# EAGLE library part PS8802 (library ENERGY METR_MY_WASH_HOST_V0.1)
MOTOROLA OPTO COUPLER
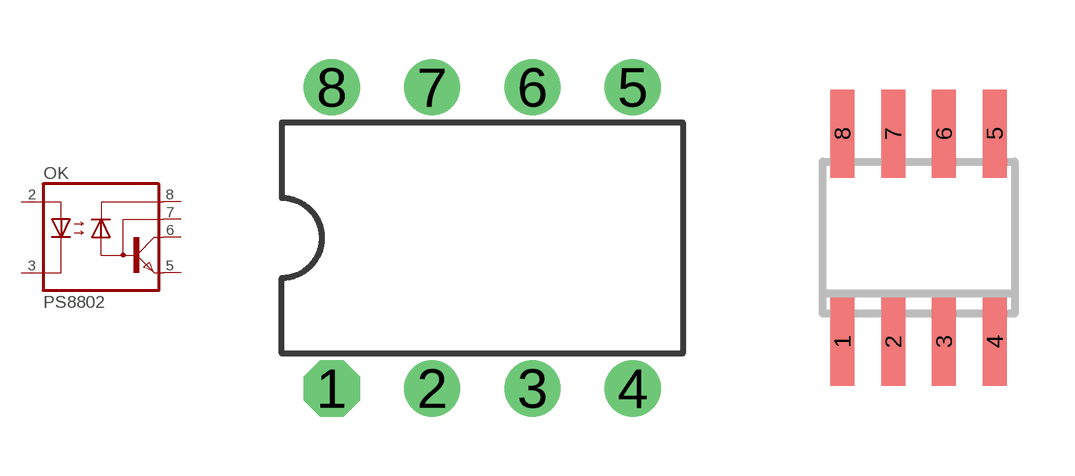
[diagram p1: symbol with the pads of DIL08; footprints DIL08, SO08]

Designator prefix OK

## PS8802  [DIL08]
2  A  pas
3  C  pas
5  GND  pas
6  VO  pas
7  VB  pas
8  VCC  pas

## PS8802SO08  [SO08]
Pads as for DIL08

## PS8802SO08_DIL08  [SO08_DIL08]
10  A  pas
11  C  pas
13  GND  pas
14  VO  pas
15  VB  pas
16  VCC  pas

## Footprint DIL08 (pad centres in mm)
Dual In Line Package
drill 0.813 pad 1.422 octagon: 1 -3.81,-3.81
drill 0.813 pad 1.422: 2 -1.27,-3.81; 3 1.27,-3.81; 4 3.81,-3.81; 5 3.81,3.81; 6 1.27,3.81; 7 -1.27,3.81; 8 -3.81,3.81

## Footprint SO08 (pad centres in mm)
SMALL OUTLINE INTEGRATED CIRCUIT body 3.9 mm/JEDEC MS-012AA
smd 0.6 x 2.2: 1 -1.905,-2.6; 2 -0.635,-2.6; 3 0.635,-2.6; 4 1.905,-2.6; 5 1.905,2.6; 6 0.635,2.6; 7 -0.635,2.6; 8 -1.905,2.6

## Footprint SO08_DIL08 (pad centres in mm)
smd 0.6 x 2.2: 1 1.651,1.584; 2 0.381,1.584; 3 -0.889,1.584; 4 -2.159,1.584; 5 -2.159,-3.616; 6 -0.889,-3.616; 7 0.381,-3.616; 8 1.651,-3.616
drill 0.813 pad 1.422 octagon: 9 -3.81,3.81
drill 0.813 pad 1.422: 10 -3.81,1.27; 11 -3.81,-1.27; 12 -3.81,-3.81; 13 3.81,-3.81; 14 3.81,-1.27; 15 3.81,1.27; 16 3.81,3.81